# EAGLE library part FPC-36WAY (library pimoroni-fpc)
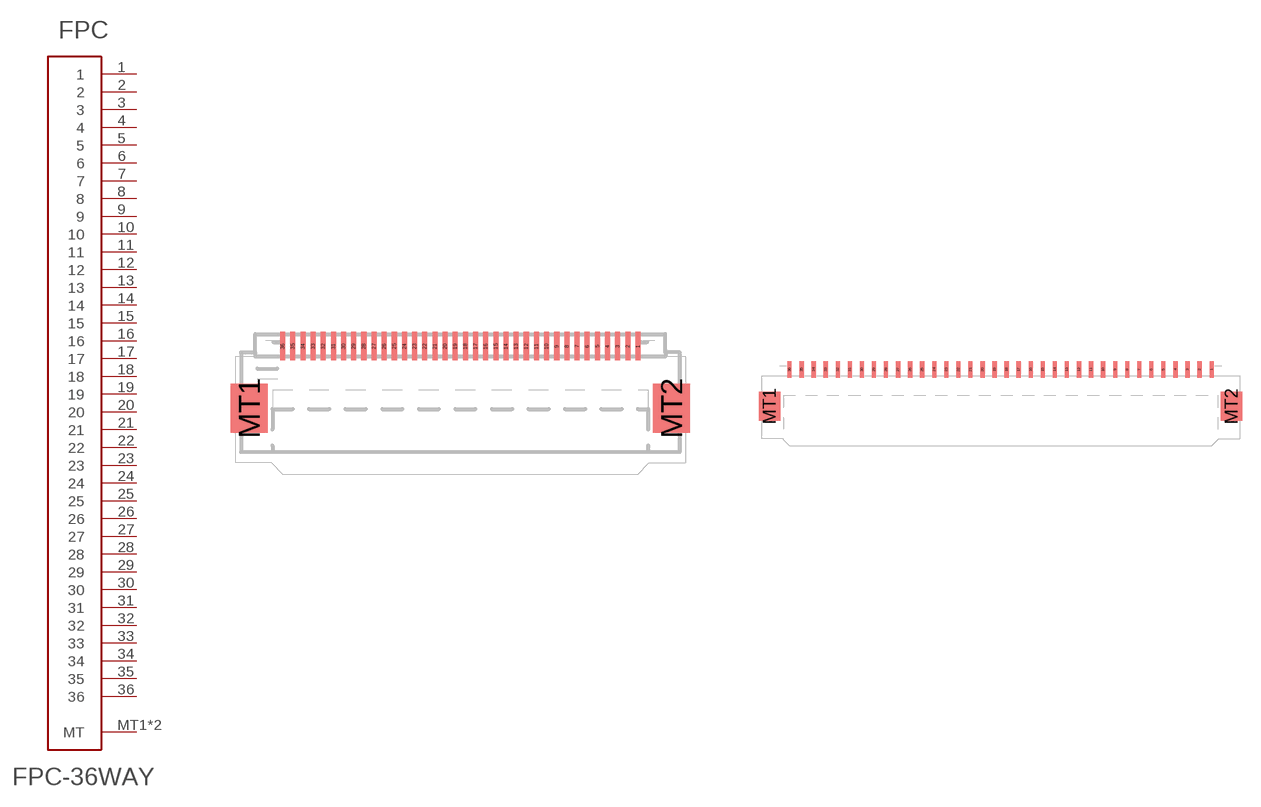
[diagram p31: symbol with the pads of FPC-0.5MM-36WAY; footprints FPC-0.5MM-36WAY, FPC-1.0MM-36WAY]

Designator prefix FPC

## FPC-36WAY0.5  [FPC-0.5MM-36WAY]
1  1
2  2
3  3
4  4
5  5
6  6
7  7
8  8
9  9
10  10
11  11
12  12
13  13
14  14
15  15
16  16
17  17
18  18
19  19
20  20
21  21
22  22
23  23
24  24
25  25
26  26
27  27
28  28
29  29
30  30
31  31
32  32
33  33
34  34
35  35
36  36
MT1  MT
MT2  MT

## FPC-36WAY1.0  [FPC-1.0MM-36WAY]
Pads as for FPC-0.5MM-36WAY

## Footprint FPC-0.5MM-36WAY (pad centres in mm)
smd 0.25 x 1.4: 1 8.75,0.7; 2 8.25,0.7; 3 7.75,0.7; 4 7.25,0.7; 5 6.75,0.7; 6 6.25,0.7; 7 5.75,0.7; 8 5.25,0.7; 9 4.75,0.7; 10 4.25,0.7; 11 3.75,0.7; 12 3.25,0.7; 13 2.75,0.7; 14 2.25,0.7; 15 1.75,0.7; 16 1.25,0.7; 17 0.75,0.7; 18 0.25,0.7; 19 -0.25,0.7; 20 -0.75,0.7; 21 -1.25,0.7; 22 -1.75,0.7; 23 -2.25,0.7; 24 -2.75,0.7; 25 -3.25,0.7; 26 -3.75,0.7; 27 -4.25,0.7; 28 -4.75,0.7; 29 -5.25,0.7; 30 -5.75,0.7; 31 -6.25,0.7; 32 -6.75,0.7; 33 -7.25,0.7; 34 -7.75,0.7; 35 -8.25,0.7; 36 -8.75,0.7
smd 1.8 x 2.4: MT1 -10.4,-2.35; MT2 10.4,-2.35

## Footprint FPC-1.0MM-36WAY (pad centres in mm)
smd 0.35 x 1.4: 1 17.5,0.7; 2 16.5,0.7; 3 15.5,0.7; 4 14.5,0.7; 5 13.5,0.7; 6 12.5,0.7; 7 11.5,0.7; 8 10.5,0.7; 9 9.5,0.7; 10 8.5,0.7; 11 7.5,0.7; 12 6.5,0.7; 13 5.5,0.7; 14 4.5,0.7; 15 3.5,0.7; 16 2.5,0.7; 17 1.5,0.7; 18 0.5,0.7; 19 -0.5,0.7; 20 -1.5,0.7; 21 -2.5,0.7; 22 -3.5,0.7; 23 -4.5,0.7; 24 -5.5,0.7; 25 -6.5,0.7; 26 -7.5,0.7; 27 -8.5,0.7; 28 -9.5,0.7; 29 -10.5,0.7; 30 -11.5,0.7; 31 -12.5,0.7; 32 -13.5,0.7; 33 -14.5,0.7; 34 -15.5,0.7; 35 -16.5,0.7; 36 -17.5,0.7
smd 1.8 x 2.4: MT1 -19.15,-2.35; MT2 19.15,-2.35